# Altium footprint library CAP_SMD.PcbLib: 70 footprints (part 5 of 5)
Each footprint in its own frame and in the unit in brackets; x right, y up, seen from the top. Pads: shape width x height; smd on the part's side, far side on the other; paste and mask are expansions set on the pad; w line width, h text height; cw(c..) or ccw(c..) is an arc to the next point about the centre after c.
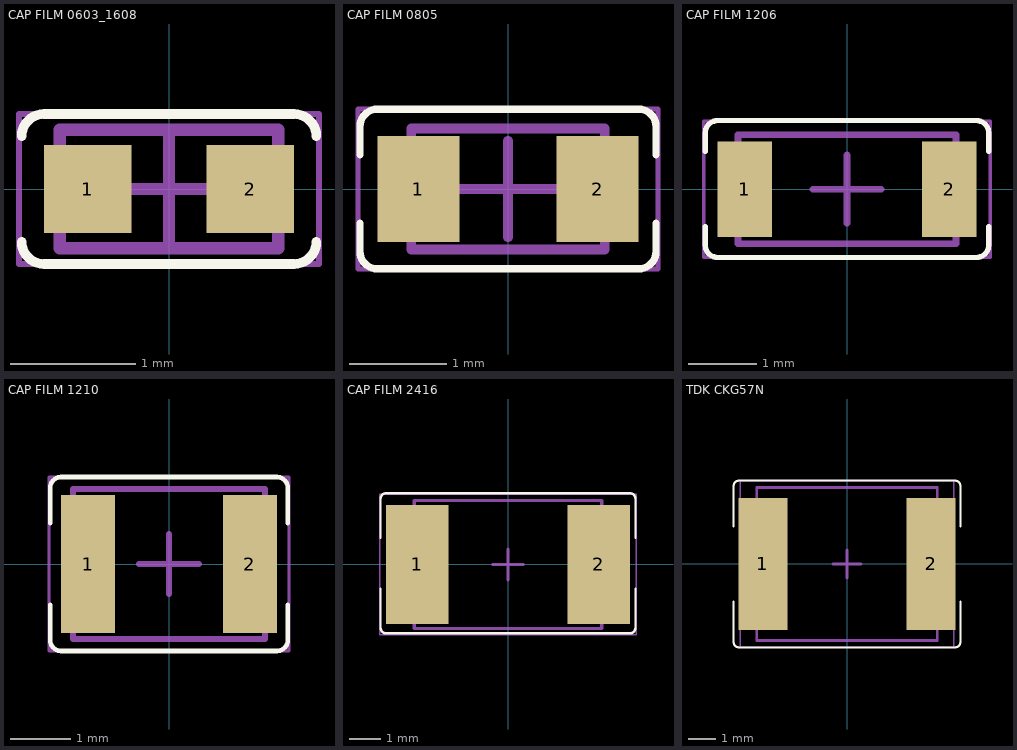
[diagram p4: the footprints below, top view; thin cyan lines are the x and y axes]

## CAP FILM 0603_1608 [mm] "Chip Capacitor, 2-Leads, Body 1.60x0.80mm, IPC Medium Density"
height 0.89
pads (2):
  rect 0.7x0.7 smd: 1(-0.65,0) 2(0.65,0)
Top Overlay:
  lines w0.076: -1.18,-0.42 ccw(c-1,-0.42) -1,-0.6 1,-0.6 ccw(c1,-0.42) 1.18,-0.42 ; -1.18,0.42 cw(c-1,0.42) -1,0.6 1,0.6 cw(c1,0.42) 1.18,0.42
Mechanical 13:
  lines w0.1: -0.875,-0.475 0.875,-0.475 0.875,0.475 -0.875,0.475 -0.875,-0.475
Mechanical 15:
  lines w0.05: -1.2,-0.6 1.2,-0.6 1.2,0.6 -1.2,0.6 -1.2,-0.6
  lines w0.1: -0.475,0 0.475,0 ; 0,-0.475 0,0.475
3D body "CAP FILM - 0603.step": height 0.7, standoff 0, extent -0.8,-0.4 0.8,0.4

## CAP FILM 0805 [mm] "J2, Film Capacitor PPS , 2-Leads, Body 2.00x1.25mm, IPC Medium Density"
height 1
pads (2):
  rect 0.85x1.1 smd: 1(-0.925,0) 2(0.925,0)
Top Overlay:
  lines w0.076: -1.53,-0.355 -1.53,-0.645 ccw(c-1.35,-0.645) -1.35,-0.825 1.35,-0.825 ccw(c1.35,-0.645) 1.53,-0.645 1.53,-0.355 ; -1.53,0.355 -1.53,0.645 cw(c-1.35,0.645) -1.35,0.825 1.35,0.825 cw(c1.35,0.645) 1.53,0.645 1.53,0.355
Mechanical 13:
  lines w0.1: -1,-0.625 1,-0.625 1,0.625 -1,0.625 -1,-0.625
Mechanical 15:
  lines w0.05: -1.55,-0.825 -1.55,0.825 1.55,0.825 1.55,-0.825 -1.55,-0.825
  lines w0.1: -0.5,0 0.5,0 ; 0,-0.5 0,0.5
3D body "CAP FILM - 0805.step": height 1.2, standoff 0, extent -1,-0.616 1,0.616

## CAP FILM 1206 [mm] "H1, Film Capacitor PPS, 2-Leads, Body 3.20x1.60mm, IPC Medium Density"
height 0.8
pads (2):
  rect 0.8x1.4 smd: 1(-1.5,0) 2(1.5,0)
Top Overlay:
  lines w0.076: -2.08,-0.549 -2.08,-0.82 ccw(c-1.9,-0.82) -1.9,-1 1.9,-1 ccw(c1.9,-0.82) 2.08,-0.82 2.08,-0.549 ; -2.08,0.556 -2.08,0.827 cw(c-1.9,0.827) -1.9,1.007 1.9,1.007 cw(c1.9,0.827) 2.08,0.827 2.08,0.556
Mechanical 13:
  lines w0.1: -1.6,-0.8 -1.6,0.8 1.6,0.8 1.6,-0.8 -1.6,-0.8
Mechanical 15:
  lines w0.05: -2.1,-1 2.1,-1 2.1,1 -2.1,1 -2.1,-1
  lines w0.1: -0.5,0 0.5,0 ; 0,-0.5 0,0.5
3D body "CAP FILM - 1206.step": height 1, standoff 0, extent -1.6,-0.8 1.6,0.8

## CAP FILM 1210 [mm] "G2, Film Capacitor PPS, 2-Leads, Body 3.20x2.50mm, IPC Medium Density"
height 1.4
pads (2):
  rect 0.9x2.3 smd: 1(-1.35,0) 2(1.35,0)
Top Overlay:
  lines w0.076: -1.98,-0.681 -1.98,-1.27 ccw(c-1.8,-1.27) -1.8,-1.45 1.8,-1.45 ccw(c1.8,-1.27) 1.98,-1.27 1.98,-0.681 ; -1.98,0.681 -1.98,1.27 cw(c-1.8,1.27) -1.8,1.45 1.8,1.45 cw(c1.8,1.27) 1.98,1.27 1.98,0.681
Mechanical 13:
  lines w0.1: -1.6,-1.25 1.6,-1.25 1.6,1.25 -1.6,1.25 -1.6,-1.25
Mechanical 15:
  lines w0.05: -2,-1.45 2,-1.45 2,1.45 -2,1.45 -2,-1.45
  lines w0.1: -0.5,0 0.5,0 ; 0,-0.5 0,0.5
3D body "CAP FILM - 1210-1.6mm.step": height 1.6, standoff 0, extent -1.6,-1.25 1.6,1.25

## CAP FILM 2416 [mm] "D1, Film Capacitor PPS, 2-Leads, Body 6.00x4.10mm, IPC Medium Density"
height 1.8
pads (2):
  rect 2x3.8 smd: 1(-2.9,0) 2(2.9,0)
Top Overlay:
  lines w0.076: -4.08,-0.778 -4.08,-2.027 ccw(c-3.9,-2.027) -3.9,-2.207 3.9,-2.207 ccw(c3.9,-2.027) 4.08,-2.027 4.08,-0.778 ; -4.08,0.851 -4.08,2.1 cw(c-3.9,2.1) -3.9,2.28 3.9,2.28 cw(c3.9,2.1) 4.08,2.1 4.08,0.851
Mechanical 13:
  lines w0.1: -3,-2.05 -3,2.05 3,2.05 3,-2.05 -3,-2.05
Mechanical 15:
  lines w0.05: -4.1,-2.25 -4.1,2.25 4.1,2.25 4.1,-2.25 -4.1,-2.25
  lines w0.1: -0.5,0 0.5,0 ; 0,-0.5 0,0.5
3D body "CAP FILM - 2416.step": height 2.2, standoff 0, extent -3,-2.05 3,2.05

## TDK CKG57N [mm] "Chip Capacitor, 2-Leads, Body 6.00x5.00mm, IPC Medium Density"
height 3.5
pads (2):
  rect 1.75x4.75 smd: 1(-3.025,0) 2(3.025,0)
Top Overlay:
  lines w0.076: -4.08,-1.35 -4.08,-2.82 ccw(c-3.9,-2.82) -3.9,-3 3.9,-3 ccw(c3.9,-2.82) 4.08,-2.82 4.08,-1.35 ; -4.08,1.35 -4.08,2.82 cw(c-3.9,2.82) -3.9,3 3.9,3 cw(c3.9,2.82) 4.08,2.82 4.08,1.35
Mechanical 13:
  lines w0.1: -3.25,-2.75 -3.25,2.75 3.25,2.75 3.25,-2.75 -3.25,-2.75
Mechanical 15:
  lines w0.05: -3.85,-3 -3.85,3 3.85,3 3.85,-3 -3.85,-3
  lines w0.1: -0.5,0 0.5,0 ; 0,-0.5 0,0.5
3D body "TDK CKG57N.step": height 3.5, standoff 0, extent -3,-2.5 3,2.5